# Altium footprint library Miscellaneous Devices LC.PcbLib: 559 footprints (part 16 of 35)
Each footprint in its own frame and in the unit in brackets; x right, y up, seen from the top. Pads: shape width x height; smd on the part's side, far side on the other; paste and mask are expansions set on the pad; w line width, h text height; cw(c..) or ccw(c..) is an arc to the next point about the centre after c.
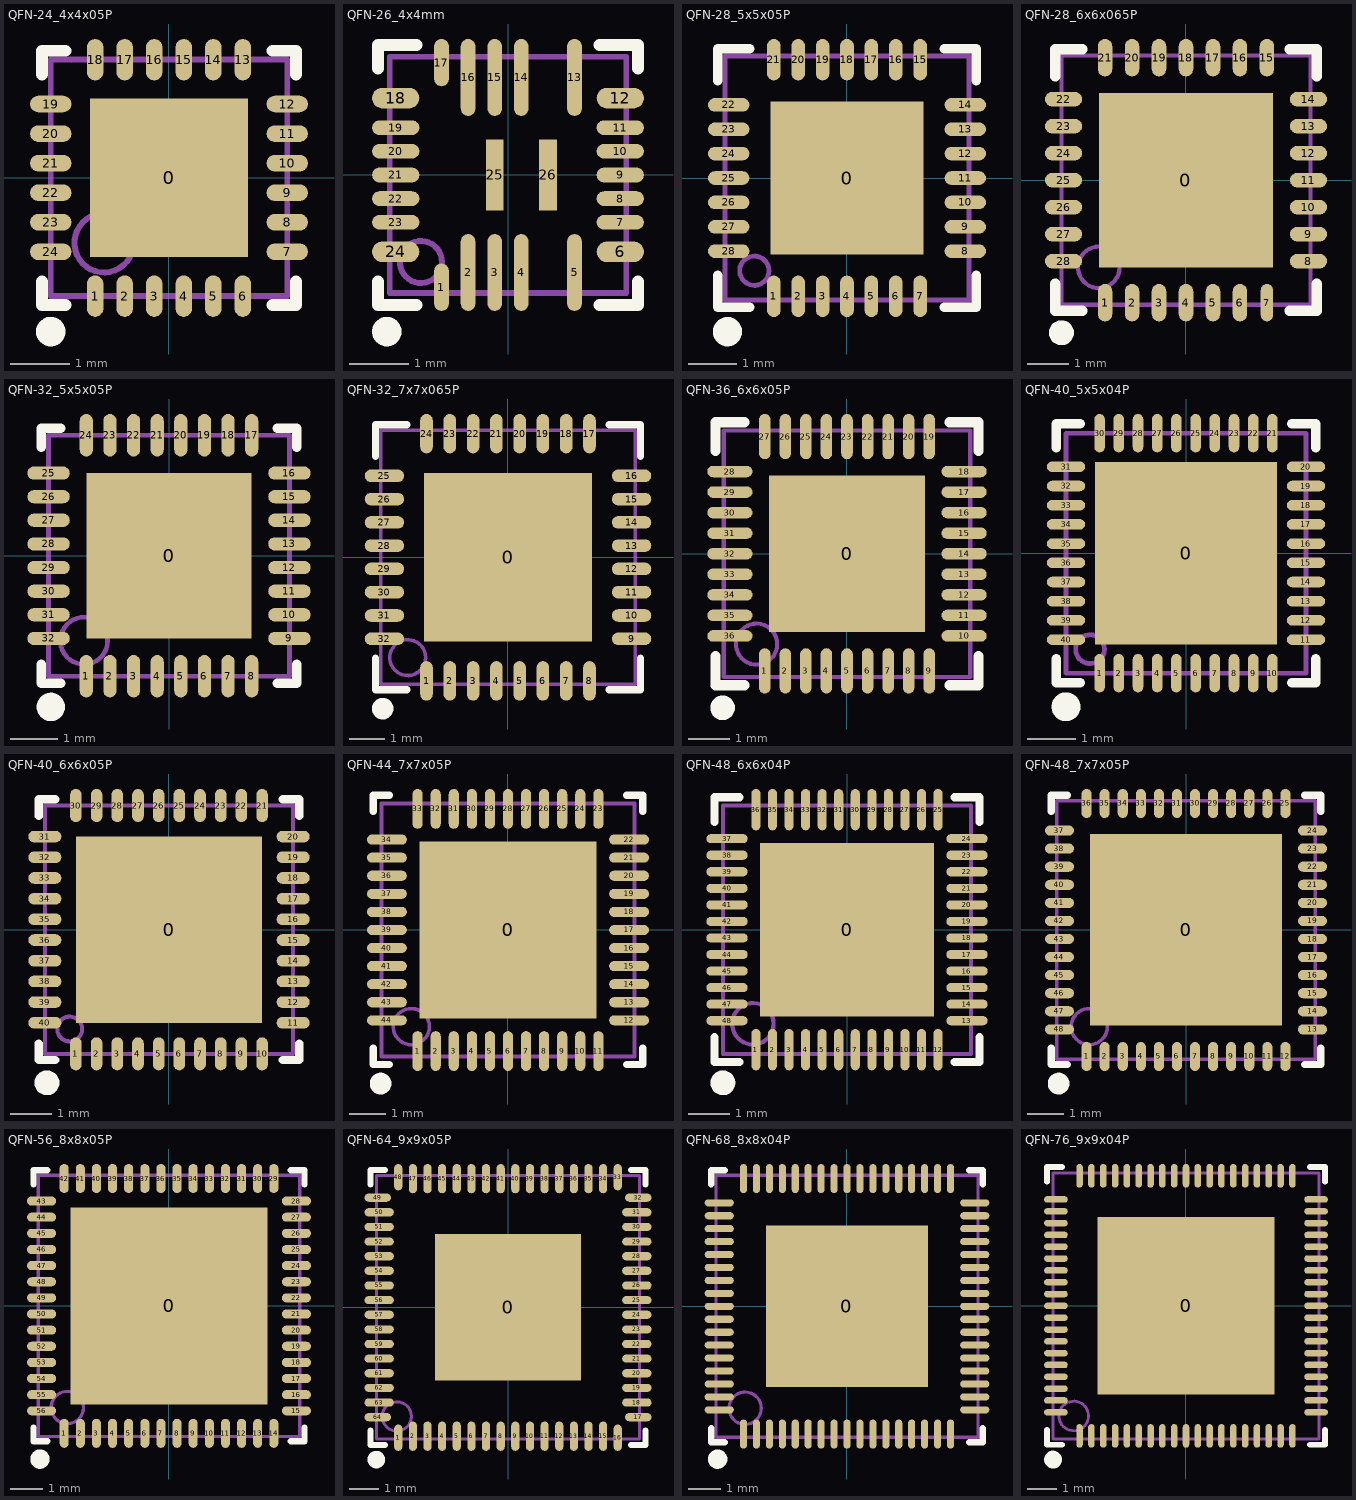
[diagram p15: the footprints below, top view; thin cyan lines are the x and y axes]

## QFN-24_4x4x05P [mm]
pads (25):
  rect 2.68x2.68 smd mask+0.051: 0(0,0)
  oval 0.28x0.7 smd mask+0.051: 1(-1.25,-2) 2(-0.75,-2) 3(-0.25,-2) 4(0.25,-2) 5(0.75,-2) 6(1.25,-2) 13(1.25,2) 14(0.75,2) 15(0.25,2) 16(-0.25,2) 17(-0.75,2) 18(-1.25,2)
  oval 0.7x0.28 smd mask+0.051: 7(2,-1.25) 8(2,-0.75) 9(2,-0.25) 10(2,0.25) 11(2,0.75) 12(2,1.25) 19(-2,1.25) 20(-2,0.75) 21(-2,0.25) 22(-2,-0.25) 23(-2,-0.75) 24(-2,-1.25)
Top Overlay:
  circle w0.25: c-2,-2.6 r0.125
  lines w0.2: -2.15,-1.75 -2.15,-2.15 -1.75,-2.15 ; -2.15,1.75 -2.15,2.15 -1.75,2.15 ; 1.75,-2.15 2.15,-2.15 2.15,-1.75 ; 1.75,2.15 2.15,2.15 2.15,1.75
Mechanical 13:
  circle w0.1: c-1.1,-1.1 r0.5
  lines w0.1: -2,-2 -2,2 2,2 2,-2 -2,-2

## QFN-26_4x4mm [mm]
pads (26):
  oval 0.25x0.8 smd mask+0.051: 1(-1.125,-1.9) 17(-1.125,1.9)
  oval 0.25x1.3 smd mask+0.051: 2(-0.675,-1.65) 3(-0.225,-1.65) 4(0.225,-1.65) 5(1.125,-1.65) 13(1.125,1.65) 14(0.225,1.65) 15(-0.225,1.65) 16(-0.675,1.65)
  oval 0.8x0.35 smd mask+0.051: 6(1.9,-1.3) 12(1.9,1.3) 18(-1.9,1.3) 24(-1.9,-1.3)
  oval 0.8x0.25 smd mask+0.051: 7(1.9,-0.8) 8(1.9,-0.4) 9(1.9,0) 10(1.9,0.4) 11(1.9,0.8) 19(-1.9,0.8) 20(-1.9,0.4) 21(-1.9,0) 22(-1.9,-0.4) 23(-1.9,-0.8)
  rect 0.3x1.2 smd mask+0.051: 25(-0.225,0) 26(0.675,0)
Top Overlay:
  circle w0.25: c-2.05,-2.65 r0.125
  lines w0.2: -2.2,-1.8 -2.2,-2.2 -1.55,-2.2 ; -2.2,1.8 -2.2,2.2 -1.55,2.2 ; 1.55,-2.2 2.2,-2.2 2.2,-1.8 ; 1.55,2.2 2.2,2.2 2.2,1.8
Mechanical 13:
  circle w0.1: c-1.473,-1.473 r0.356
  lines w0.1: -2,-2 -2,2 2,2 2,-2 -2,-2

## QFN-28_5x5x05P [mm]
pads (29):
  rect 3.13x3.13 smd mask+0.051: 0(0,0)
  oval 0.28x0.85 smd mask+0.051: 1(-1.5,-2.425) 2(-1,-2.425) 3(-0.5,-2.425) 4(0,-2.425) 5(0.5,-2.425) 6(1,-2.425) 7(1.5,-2.425) 15(1.5,2.425) 16(1,2.425) 17(0.5,2.425) 18(0,2.425) 19(-0.5,2.425) 20(-1,2.425) 21(-1.5,2.425)
  oval 0.85x0.28 smd mask+0.051: 8(2.425,-1.5) 9(2.425,-1) 10(2.425,-0.5) 11(2.425,0) 12(2.425,0.5) 13(2.425,1) 14(2.425,1.5) 22(-2.425,1.5) 23(-2.425,1) 24(-2.425,0.5) 25(-2.425,0) 26(-2.425,-0.5) 27(-2.425,-1) 28(-2.425,-1.5)
Top Overlay:
  circle w0.3: c-2.45,-3.15 r0.15
  lines w0.2: -2.65,-2 -2.65,-2.65 -2,-2.65 ; -2.65,2 -2.65,2.65 -2,2.65 ; 2,-2.65 2.65,-2.65 2.65,-2 ; 2,2.65 2.65,2.65 2.65,2
Mechanical 13:
  circle w0.1: c-1.9,-1.9 r0.3
  lines w0.1: -2.5,-2.5 2.5,-2.5 2.5,2.5 -2.5,2.5 -2.5,-2.5

## QFN-28_6x6x065P [mm]
pads (29):
  rect 4.2x4.2 smd mask+0.051: 0(0,0)
  oval 0.35x0.9 smd mask+0.051: 1(-1.95,-2.95) 2(-1.3,-2.95) 3(-0.65,-2.95) 4(0,-2.95) 5(0.65,-2.95) 6(1.3,-2.95) 15(1.95,2.95) 16(1.3,2.95) 17(0.65,2.95) 18(0,2.95) 19(-0.65,2.95) 20(-1.3,2.95) 21(-1.95,2.95)
  oval 0.3x0.9 smd mask+0.051: 7(1.95,-2.95)
  oval 0.9x0.35 smd mask+0.051: 8(2.95,-1.95) 9(2.95,-1.3) 10(2.95,-0.65) 11(2.95,0) 12(2.95,0.65) 13(2.95,1.3) 14(2.95,1.95) 22(-2.95,1.95) 23(-2.95,1.3) 24(-2.95,0.65) 25(-2.95,0) 26(-2.95,-0.65) 27(-2.95,-1.3) 28(-2.95,-1.95)
Top Overlay:
  circle w0.3: c-3,-3.675 r0.15
  lines w0.254: -3.15,-2.5 -3.15,-3.15 -2.5,-3.15 ; -3.15,2.5 -3.15,3.15 -2.5,3.15 ; 2.5,-3.15 3.15,-3.15 3.15,-2.5 ; 2.5,3.15 3.15,3.15 3.15,2.5
Mechanical 13:
  circle w0.1: c-2.1,-2.1 r0.5
  lines w0.1: -3,-3 -3,3 3,3 3,-3 -3,-3

## QFN-32_5x5x05P [mm]
pads (33):
  rect 3.5x3.5 smd paste-1.75 mask+0.051: 0(0,0)
  oval 0.28x0.9 smd mask+0.051: 1(-1.75,-2.55) 2(-1.25,-2.55) 3(-0.75,-2.55) 4(-0.25,-2.55) 5(0.25,-2.55) 6(0.75,-2.55) 7(1.25,-2.55) 8(1.75,-2.55) 17(1.75,2.55) 18(1.25,2.55) 19(0.75,2.55) 20(0.25,2.55) 21(-0.25,2.55) 22(-0.75,2.55) 23(-1.25,2.55) 24(-1.75,2.55)
  oval 0.9x0.28 smd mask+0.051: 9(2.55,-1.75) 10(2.55,-1.25) 11(2.55,-0.75) 12(2.55,-0.25) 13(2.55,0.25) 14(2.55,0.75) 15(2.55,1.25) 16(2.55,1.75) 25(-2.55,1.75) 26(-2.55,1.25) 27(-2.55,0.75) 28(-2.55,0.25) 29(-2.55,-0.25) 30(-2.55,-0.75) 31(-2.55,-1.25) 32(-2.55,-1.75)
Top Overlay:
  circle w0.3: c-2.5,-3.2 r0.15
  lines w0.2: -2.7,-2.295 -2.7,-2.7 -2.295,-2.7 ; -2.7,2.295 -2.7,2.7 -2.295,2.7 ; 2.295,-2.7 2.7,-2.7 2.7,-2.295 ; 2.295,2.7 2.7,2.7 2.7,2.295
Top Paste:
  rectangle: 0.55,0.55 1.05,1.05
  rectangle: -0.25,0.55 0.25,1.05
  rectangle: -1.05,0.55 -0.55,1.05
  rectangle: -1.05,-0.25 -0.55,0.25
  rectangle: -1.05,-1.05 -0.55,-0.55
  rectangle: 0.55,-1.05 1.05,-0.55
  rectangle: -0.25,-1.05 0.25,-0.55
  rectangle: 0.55,-0.25 1.05,0.25
  rectangle: -0.25,-0.25 0.25,0.25
Mechanical 13:
  circle w0.1: c-1.8,-1.8 r0.5
  lines w0.1: -2.55,-2.55 -2.55,2.55 2.55,2.55 2.55,-2.55 -2.55,-2.55

## QFN-32_7x7x065P [mm]
pads (33):
  rect 4.7x4.7 smd paste-2.35 mask+0.051: 0(0,0)
  oval 0.35x1.1 smd mask+0.051: 1(-2.275,-3.45) 2(-1.625,-3.45) 3(-0.975,-3.45) 4(-0.325,-3.45) 5(0.325,-3.45) 6(0.975,-3.45) 7(1.625,-3.45) 8(2.275,-3.45) 17(2.275,3.45) 18(1.625,3.45) 19(0.975,3.45) 20(0.325,3.45) 21(-0.325,3.45) 22(-0.975,3.45) 23(-1.625,3.45) 24(-2.275,3.45)
  oval 1.1x0.35 smd mask+0.051: 9(3.45,-2.275) 10(3.45,-1.625) 11(3.45,-0.975) 12(3.45,-0.325) 13(3.45,0.325) 14(3.45,0.975) 15(3.45,1.625) 16(3.45,2.275) 25(-3.45,2.275) 26(-3.45,1.625) 27(-3.45,0.975) 28(-3.45,0.325) 29(-3.45,-0.325) 30(-3.45,-0.975) 31(-3.45,-1.625) 32(-3.45,-2.275)
Top Overlay:
  circle w0.3: c-3.5,-4.225 r0.15
  lines w0.2: -3.7,-2.815 -3.7,-3.7 -2.815,-3.7 ; -3.7,2.815 -3.7,3.7 -2.815,3.7 ; 2.815,-3.7 3.7,-3.7 3.7,-2.815 ; 2.815,3.7 3.7,3.7 3.7,2.815
Top Paste:
  rectangle: 0.65,-1.35 1.35,-0.65
  rectangle: -1.35,-1.35 -0.65,-0.65
  rectangle: -0.35,-1.35 0.35,-0.65
  rectangle: 0.65,-0.35 1.35,0.35
  rectangle: 0.65,0.65 1.35,1.35
  region: -0.65,1.35 -1.35,1.35 -1.35,0.65 -0.65,0.65
  rectangle: -0.35,0.65 0.35,1.35
  rectangle: -0.35,-0.35 0.35,0.35
  region: -0.65,0.35 -1.35,0.35 -1.35,-0.35 -0.65,-0.35
Mechanical 13:
  circle w0.1: c-2.8,-2.8 r0.5
  lines w0.1: -3.55,-3.55 -3.55,3.55 3.55,3.55 3.55,-3.55 -3.55,-3.55

## QFN-36_6x6x05P [mm]
pads (37):
  rect 3.8x3.8 smd mask+0.051: 0(0,0)
  oval 0.28x1.1 smd mask+0.051: 1(-2,-2.85) 2(-1.5,-2.85) 3(-1,-2.85) 4(-0.5,-2.85) 5(0,-2.85) 6(0.5,-2.85) 7(1,-2.85) 8(1.5,-2.85) 9(2,-2.85) 19(2,2.85) 20(1.5,2.85) 21(1,2.85) 22(0.5,2.85) 23(0,2.85) 24(-0.5,2.85) 25(-1,2.85) 26(-1.5,2.85) 27(-2,2.85)
  oval 1.1x0.28 smd mask+0.051: 10(2.85,-2) 11(2.85,-1.5) 12(2.85,-1) 13(2.85,-0.5) 14(2.85,0) 15(2.85,0.5) 16(2.85,1) 17(2.85,1.5) 18(2.85,2) 28(-2.85,2) 29(-2.85,1.5) 30(-2.85,1) 31(-2.85,0.5) 32(-2.85,0) 33(-2.85,-0.5) 34(-2.85,-1) 35(-2.85,-1.5) 36(-2.85,-2)
Top Overlay:
  circle w0.3: c-3.025,-3.75 r0.15
  lines w0.254: -3.2,-2.5 -3.2,-3.2 -2.5,-3.2 ; -3.2,2.5 -3.2,3.2 -2.5,3.2 ; 2.5,-3.2 3.2,-3.2 3.2,-2.5 ; 2.5,3.2 3.2,3.2 3.2,2.5
Mechanical 13:
  circle w0.1: c-2.2,-2.2 r0.5
  lines w0.1: -3,-3 3,-3 3,3 -3,3 -3,-3
3D body "QFN36 6x6.STEP": height 0.9, standoff 0.01, extent -3.103,-3.102 3.103,3.103

## QFN-40_5x5x04P [mm]
pads (41):
  rect 3.8x3.8 smd mask+0.051: 0(0,0)
  oval 0.22x0.8 smd mask+0.051: 1(-1.8,-2.5) 2(-1.4,-2.5) 3(-1,-2.5) 4(-0.6,-2.5) 5(-0.2,-2.5) 6(0.2,-2.5) 7(0.6,-2.5) 8(1,-2.5) 9(1.4,-2.5) 10(1.8,-2.5) 21(1.8,2.5) 22(1.4,2.5) 23(1,2.5) 24(0.6,2.5) 25(0.2,2.5) 26(-0.2,2.5) 27(-0.6,2.5) 28(-1,2.5) 29(-1.4,2.5) 30(-1.8,2.5)
  oval 0.8x0.22 smd mask+0.051: 11(2.5,-1.8) 12(2.5,-1.4) 13(2.5,-1) 14(2.5,-0.6) 15(2.5,-0.2) 16(2.5,0.2) 17(2.5,0.6) 18(2.5,1) 19(2.5,1.4) 20(2.5,1.8) 31(-2.5,1.8) 32(-2.5,1.4) 33(-2.5,1) 34(-2.5,0.6) 35(-2.5,0.2) 36(-2.5,-0.2) 37(-2.5,-0.6) 38(-2.5,-1) 39(-2.5,-1.4) 40(-2.5,-1.8)
Top Overlay:
  circle w0.3: c-2.5,-3.2 r0.15
  lines w0.2: -2.7,-2.2 -2.7,-2.7 -2.2,-2.7 ; -2.7,2.2 -2.7,2.7 -2.2,2.7 ; 2.2,-2.7 2.7,-2.7 2.7,-2.2 ; 2.2,2.7 2.7,2.7 2.7,2.2
Top Paste:
  rectangle: -0.7,-0.3 -0.2,0.2
  rectangle: 0.1,-0.3 0.6,0.2
  rectangle: -0.7,-1.1 -0.2,-0.6
  rectangle: 0.1,-1.1 0.6,-0.6
  rectangle: -1.5,-1.1 -1,-0.6
  rectangle: -1.5,-0.3 -1,0.2
  rectangle: -1.5,0.5 -1,1
  rectangle: -0.7,0.5 -0.2,1
  rectangle: 0.1,0.5 0.6,1
Mechanical 13:
  circle w0.1: c-2,-2 r0.3
  lines w0.1: -2.5,-2.5 2.5,-2.5 2.5,2.5 -2.5,2.5 -2.5,-2.5

## QFN-40_6x6x05P [mm]
pads (41):
  rect 4.5x4.5 smd mask+0.051: 0(0,0)
  oval 0.28x0.8 smd mask+0.051: 1(-2.25,-3) 2(-1.75,-3) 3(-1.25,-3) 4(-0.75,-3) 5(-0.25,-3) 6(0.25,-3) 7(0.75,-3) 8(1.25,-3) 9(1.75,-3) 10(2.25,-3) 21(2.25,3) 22(1.75,3) 23(1.25,3) 24(0.75,3) 25(0.25,3) 26(-0.25,3) 27(-0.75,3) 28(-1.25,3) 29(-1.75,3) 30(-2.25,3)
  oval 0.8x0.28 smd mask+0.051: 11(3,-2.25) 12(3,-1.75) 13(3,-1.25) 14(3,-0.75) 15(3,-0.25) 16(3,0.25) 17(3,0.75) 18(3,1.25) 19(3,1.75) 20(3,2.25) 31(-3,2.25) 32(-3,1.75) 33(-3,1.25) 34(-3,0.75) 35(-3,0.25) 36(-3,-0.25) 37(-3,-0.75) 38(-3,-1.25) 39(-3,-1.75) 40(-3,-2.25)
Top Overlay:
  circle w0.3: c-2.95,-3.7 r0.15
  lines w0.2: -3.15,-2.75 -3.15,-3.15 -2.75,-3.15 ; -3.15,2.75 -3.15,3.15 -2.75,3.15 ; 2.75,-3.15 3.15,-3.15 3.15,-2.75 ; 2.75,3.15 3.15,3.15 3.15,2.75
Mechanical 13:
  circle w0.1: c-2.4,-2.4 r0.3
  lines w0.1: -3,-3 -3,3 3,3 3,-3 -3,-3
3D body "QFN40-6x6.STEP": height 0.9, standoff 0, extent -3,-3 3,3

## QFN-44_7x7x05P [mm]
pads (45):
  rect 4.9x4.9 smd mask+0.051: 0(0,0)
  oval 0.28x1.1 smd mask+0.051: 1(-2.5,-3.35) 2(-2,-3.35) 3(-1.5,-3.35) 4(-1,-3.35) 5(-0.5,-3.35) 6(0,-3.35) 7(0.5,-3.35) 8(1,-3.35) 9(1.5,-3.35) 10(2,-3.35) 11(2.5,-3.35) 23(2.5,3.35) 24(2,3.35) 25(1.5,3.35) 26(1,3.35) 27(0.5,3.35) 28(0,3.35) 29(-0.5,3.35) 30(-1,3.35) 31(-1.5,3.35) 32(-2,3.35) 33(-2.5,3.35)
  oval 1.1x0.28 smd mask+0.051: 12(3.35,-2.5) 13(3.35,-2) 14(3.35,-1.5) 15(3.35,-1) 16(3.35,-0.5) 17(3.35,0) 18(3.35,0.5) 19(3.35,1) 20(3.35,1.5) 21(3.35,2) 22(3.35,2.5) 34(-3.35,2.5) 35(-3.35,2) 36(-3.35,1.5) 37(-3.35,1) 38(-3.35,0.5) 39(-3.35,0) 40(-3.35,-0.5) 41(-3.35,-1) 42(-3.35,-1.5) 43(-3.35,-2) 44(-3.35,-2.5)
Top Overlay:
  circle w0.3: c-3.525,-4.25 r0.15
  lines w0.2: -3.725,-3.275 -3.725,-3.725 -3.275,-3.725 ; -3.725,3.275 -3.725,3.725 -3.275,3.725 ; 3.275,-3.725 3.725,-3.725 3.725,-3.275 ; 3.275,3.725 3.725,3.725 3.725,3.275
Mechanical 13:
  circle w0.1: c-2.675,-2.675 r0.5
  lines w0.1: -3.5,-3.5 3.5,-3.5 3.5,3.5 -3.5,3.5 -3.5,-3.5

## QFN-48_6x6x04P [mm]
pads (49):
  rect 4.2x4.2 smd mask+0.051: 0(0,0)
  oval 0.22x1 smd mask+0.051: 1(-2.2,-2.9) 2(-1.8,-2.9) 3(-1.4,-2.9) 4(-1,-2.9) 5(-0.6,-2.9) 6(-0.2,-2.9) 7(0.2,-2.9) 8(0.6,-2.9) 9(1,-2.9) 10(1.4,-2.9) 11(1.8,-2.9) 12(2.2,-2.9) 25(2.2,2.9) 26(1.8,2.9) 27(1.4,2.9) 28(1,2.9) 29(0.6,2.9) 30(0.2,2.9) 31(-0.2,2.9) 32(-0.6,2.9) 33(-1,2.9) 34(-1.4,2.9) 35(-1.8,2.9) 36(-2.2,2.9)
  oval 1x0.22 smd mask+0.051: 13(2.9,-2.2) 14(2.9,-1.8) 15(2.9,-1.4) 16(2.9,-1) 17(2.9,-0.6) 18(2.9,-0.2) 19(2.9,0.2) 20(2.9,0.6) 21(2.9,1) 22(2.9,1.4) 23(2.9,1.8) 24(2.9,2.2) 37(-2.9,2.2) 38(-2.9,1.8) 39(-2.9,1.4) 40(-2.9,1) 41(-2.9,0.6) 42(-2.9,0.2) 43(-2.9,-0.2) 44(-2.9,-0.6) 45(-2.9,-1) 46(-2.9,-1.4) 47(-2.9,-1.8) 48(-2.9,-2.2)
Top Overlay:
  circle w0.3: c-3,-3.7 r0.15
  lines w0.2: -3.2,-2.6 -3.2,-3.2 -2.6,-3.2 ; -3.2,2.6 -3.2,3.2 -2.6,3.2 ; 2.6,-3.2 3.2,-3.2 3.2,-2.6 ; 2.6,3.2 3.2,3.2 3.2,2.6
Mechanical 13:
  circle w0.1: c-2.275,-2.275 r0.5
  lines w0.1: -3,-3 -3,3 3,3 3,-3 -3,-3

## QFN-48_7x7x05P [mm]
pads (49):
  rect 5.3x5.3 smd mask+0.051: 0(0,0)
  oval 0.28x0.8 smd mask+0.051: 1(-2.75,-3.5) 2(-2.25,-3.5) 3(-1.75,-3.5) 4(-1.25,-3.5) 5(-0.75,-3.5) 6(-0.25,-3.5) 7(0.25,-3.5) 8(0.75,-3.5) 9(1.25,-3.5) 10(1.75,-3.5) 11(2.25,-3.5) 12(2.75,-3.5) 25(2.75,3.5) 26(2.25,3.5) 27(1.75,3.5) 28(1.25,3.5) 29(0.75,3.5) 30(0.25,3.5) 31(-0.25,3.5) 32(-0.75,3.5) 33(-1.25,3.5) 34(-1.75,3.5) 35(-2.25,3.5) 36(-2.75,3.5)
  oval 0.8x0.28 smd mask+0.051: 13(3.5,-2.75) 14(3.5,-2.25) 15(3.5,-1.75) 16(3.5,-1.25) 17(3.5,-0.75) 18(3.5,-0.25) 19(3.5,0.25) 20(3.5,0.75) 21(3.5,1.25) 22(3.5,1.75) 23(3.5,2.25) 24(3.5,2.75) 37(-3.5,2.75) 38(-3.5,2.25) 39(-3.5,1.75) 40(-3.5,1.25) 41(-3.5,0.75) 42(-3.5,0.25) 43(-3.5,-0.25) 44(-3.5,-0.75) 45(-3.5,-1.25) 46(-3.5,-1.75) 47(-3.5,-2.25) 48(-3.5,-2.75)
Top Overlay:
  circle w0.3: c-3.525,-4.25 r0.15
  lines w0.2: -3.725,-3.275 -3.725,-3.725 -3.275,-3.725 ; -3.725,3.275 -3.725,3.725 -3.275,3.725 ; 3.275,-3.725 3.725,-3.725 3.725,-3.275 ; 3.275,3.725 3.725,3.725 3.725,3.275
Mechanical 13:
  circle w0.1: c-2.675,-2.675 r0.5
  lines w0.1: -3.575,-3.575 -3.575,3.575 3.575,3.575 3.575,-3.575 -3.575,-3.575
3D body "QFN48 7x7.STEP": height 0.78, standoff -0.02, extent -3.51,-3.52 3.51,3.5

## QFN-56_8x8x05P [mm]
pads (57):
  rect 6.1x6.1 smd mask+0.051: 0(0,0)
  oval 0.28x0.9 smd mask+0.051: 1(-3.25,-3.95) 2(-2.75,-3.95) 3(-2.25,-3.95) 4(-1.75,-3.95) 5(-1.25,-3.95) 6(-0.75,-3.95) 7(-0.25,-3.95) 8(0.25,-3.95) 9(0.75,-3.95) 10(1.25,-3.95) 11(1.75,-3.95) 12(2.25,-3.95) 13(2.75,-3.95) 14(3.25,-3.95) 29(3.25,3.95) 30(2.75,3.95) 31(2.25,3.95) 32(1.75,3.95) 33(1.25,3.95) 34(0.75,3.95) 35(0.25,3.95) 36(-0.25,3.95) 37(-0.75,3.95) 38(-1.25,3.95) 39(-1.75,3.95) 40(-2.25,3.95) 41(-2.75,3.95) 42(-3.25,3.95)
  oval 0.9x0.28 smd mask+0.051: 15(3.95,-3.25) 16(3.95,-2.75) 17(3.95,-2.25) 18(3.95,-1.75) 19(3.95,-1.25) 20(3.95,-0.75) 21(3.95,-0.25) 22(3.95,0.25) 23(3.95,0.75) 24(3.95,1.25) 25(3.95,1.75) 26(3.95,2.25) 27(3.95,2.75) 28(3.95,3.25) 43(-3.95,3.25) 44(-3.95,2.75) 45(-3.95,2.25) 46(-3.95,1.75) 47(-3.95,1.25) 48(-3.95,0.75) 49(-3.95,0.25) 50(-3.95,-0.25) 51(-3.95,-0.75) 52(-3.95,-1.25) 53(-3.95,-1.75) 54(-3.95,-2.25) 55(-3.95,-2.75) 56(-3.95,-3.25)
Top Overlay:
  circle w0.3: c-4,-4.75 r0.15
  lines w0.2: -4.2,-3.775 -4.2,-4.2 -3.775,-4.2 ; -4.2,3.775 -4.2,4.2 -3.775,4.2 ; 3.775,-4.2 4.2,-4.2 4.2,-3.775 ; 3.775,4.2 4.2,4.2 4.2,3.775
Mechanical 13:
  circle w0.1: c-3.15,-3.15 r0.5
  lines w0.1: -4.05,-4.05 -4.05,4.05 4.05,4.05 4.05,-4.05 -4.05,-4.05
3D body "QFN56 8x8.STEP": height 0.95, standoff 0, extent -4.015,-4.05 4.015,3.98

## QFN-64_9x9x05P [mm]
pads (65):
  rect 5x5 smd mask+0.051: 0(0,0)
  oval 0.28x0.9 smd mask+0.051: 1(-3.75,-4.45) 16(3.75,-4.45) 33(3.75,4.45) 48(-3.75,4.45)
  oval 0.28x1 smd mask+0.051: 2(-3.25,-4.4) 3(-2.75,-4.4) 4(-2.25,-4.4) 5(-1.75,-4.4) 6(-1.25,-4.4) 7(-0.75,-4.4) 8(-0.25,-4.4) 9(0.25,-4.4) 10(0.75,-4.4) 11(1.25,-4.4) 12(1.75,-4.4) 13(2.25,-4.4) 14(2.75,-4.4) 15(3.25,-4.4) 34(3.25,4.4) 35(2.75,4.4) 36(2.25,4.4) 37(1.75,4.4) 38(1.25,4.4) 39(0.75,4.4) 40(0.25,4.4) 41(-0.25,4.4) 42(-0.75,4.4) 43(-1.25,4.4) 44(-1.75,4.4) 45(-2.25,4.4) 46(-2.75,4.4) 47(-3.25,4.4)
  oval 0.9x0.28 smd mask+0.051: 17(4.45,-3.75) 32(4.45,3.75) 49(-4.45,3.75) 64(-4.45,-3.75)
  oval 1x0.28 smd mask+0.051: 18(4.4,-3.25) 19(4.4,-2.75) 20(4.4,-2.25) 21(4.4,-1.75) 22(4.4,-1.25) 23(4.4,-0.75) 24(4.4,-0.25) 25(4.4,0.25) 26(4.4,0.75) 27(4.4,1.25) 28(4.4,1.75) 29(4.4,2.25) 30(4.4,2.75) 31(4.4,3.25) 50(-4.4,3.25) 51(-4.4,2.75) 52(-4.4,2.25) 53(-4.4,1.75) 54(-4.4,1.25) 55(-4.4,0.75) 56(-4.4,0.25) 57(-4.4,-0.25) 58(-4.4,-0.75) 59(-4.4,-1.25) 60(-4.4,-1.75) 61(-4.4,-2.25) 62(-4.4,-2.75) 63(-4.4,-3.25)
Top Overlay:
  circle w0.3: c-4.5,-5.2 r0.15
  lines w0.2: -4.7,-4.2 -4.7,-4.7 -4.2,-4.7 ; -4.7,4.2 -4.7,4.7 -4.2,4.7 ; 4.2,-4.7 4.7,-4.7 4.7,-4.2 ; 4.2,4.7 4.7,4.7 4.7,4.2
Mechanical 13:
  circle w0.1: c-3.8,-3.725 r0.5
  lines w0.1: -4.5,-4.5 -4.5,4.5 4.5,4.5 4.5,-4.5 -4.5,-4.5

## QFN-68_8x8x04P [mm]
pads (69):
  rect 5x5 smd: 0(0,0)
  oval 0.22x0.9 smd mask+0.051: 1(-3.2,-3.95) 2(-2.8,-3.95) 3(-2.4,-3.95) 4(-2,-3.95) 5(-1.6,-3.95) 6(-1.2,-3.95) 7(-0.8,-3.95) 8(-0.4,-3.95) 9(0,-3.95) 10(0.4,-3.95) 11(0.8,-3.95) 12(1.2,-3.95) 13(1.6,-3.95) 14(2,-3.95) 15(2.4,-3.95) 16(2.8,-3.95) 17(3.2,-3.95) 35(3.2,3.95) 36(2.8,3.95) 37(2.4,3.95) 38(2,3.95) 39(1.6,3.95) 40(1.2,3.95) 41(0.8,3.95) 42(0.4,3.95) 43(0,3.95) 44(-0.4,3.95) 45(-0.8,3.95) 46(-1.2,3.95) 47(-1.6,3.95) 48(-2,3.95) 49(-2.4,3.95) 50(-2.8,3.95) 51(-3.2,3.95)
  oval 0.9x0.22 smd mask+0.051: 18(3.95,-3.2) 19(3.95,-2.8) 20(3.95,-2.4) 21(3.95,-2) 22(3.95,-1.6) 23(3.95,-1.2) 24(3.95,-0.8) 25(3.95,-0.4) 26(3.95,0) 27(3.95,0.4) 28(3.95,0.8) 29(3.95,1.2) 30(3.95,1.6) 31(3.95,2) 32(3.95,2.4) 33(3.95,2.8) 34(3.95,3.2) 52(-3.95,3.2) 53(-3.95,2.8) 54(-3.95,2.4) 55(-3.95,2) 56(-3.95,1.6) 57(-3.95,1.2) 58(-3.95,0.8) 59(-3.95,0.4) 60(-3.95,0) 61(-3.95,-0.4) 62(-3.95,-0.8) 63(-3.95,-1.2) 64(-3.95,-1.6) 65(-3.95,-2) 66(-3.95,-2.4) 67(-3.95,-2.8) 68(-3.95,-3.2)
Top Overlay:
  circle w0.3: c-4,-4.725 r0.15
  lines w0.2: -4.2,-3.775 -4.2,-4.2 -3.775,-4.2 ; -4.2,3.775 -4.2,4.2 -3.775,4.2 ; 3.775,-4.2 4.2,-4.2 4.2,-3.775 ; 3.775,4.2 4.2,4.2 4.2,3.775
Mechanical 13:
  circle w0.1: c-3.15,-3.15 r0.5
  lines w0.1: -4.05,-4.05 4.05,-4.05 4.05,4.05 -4.05,4.05 -4.05,-4.05

## QFN-76_9x9x04P [mm]
pads (77):
  rect 6x6 smd mask+0.051: 0(0,0)
  oval 0.22x0.8 smd mask+0.051: 1(-3.6,-4.4) 2(-3.2,-4.4) 3(-2.8,-4.4) 4(-2.4,-4.4) 5(-2,-4.4) 6(-1.6,-4.4) 7(-1.2,-4.4) 8(-0.8,-4.4) 9(-0.4,-4.4) 10(0,-4.4) 11(0.4,-4.4) 12(0.8,-4.4) 13(1.2,-4.4) 14(1.6,-4.4) 15(2,-4.4) 16(2.4,-4.4) 17(2.8,-4.4) 18(3.2,-4.4) 19(3.6,-4.4) 39(3.6,4.4) 40(3.2,4.4) 41(2.8,4.4) 42(2.4,4.4) 43(2,4.4) 44(1.6,4.4) 45(1.2,4.4) 46(0.8,4.4) 47(0.4,4.4) 48(0,4.4) 49(-0.4,4.4) 50(-0.8,4.4) 51(-1.2,4.4) 52(-1.6,4.4) 53(-2,4.4) 54(-2.4,4.4) 55(-2.8,4.4) 56(-3.2,4.4) 57(-3.6,4.4)
  oval 0.8x0.22 smd mask+0.051: 20(4.4,-3.6) 21(4.4,-3.2) 22(4.4,-2.8) 23(4.4,-2.4) 24(4.4,-2) 25(4.4,-1.6) 26(4.4,-1.2) 27(4.4,-0.8) 28(4.4,-0.4) 29(4.4,0) 30(4.4,0.4) 31(4.4,0.8) 32(4.4,1.2) 33(4.4,1.6) 34(4.4,2) 35(4.4,2.4) 36(4.4,2.8) 37(4.4,3.2) 38(4.4,3.6) 58(-4.4,3.6) 59(-4.4,3.2) 60(-4.4,2.8) 61(-4.4,2.4) 62(-4.4,2) 63(-4.4,1.6) 64(-4.4,1.2) 65(-4.4,0.8) 66(-4.4,0.4) 67(-4.4,0) 68(-4.4,-0.4) 69(-4.4,-0.8) 70(-4.4,-1.2) 71(-4.4,-1.6) 72(-4.4,-2) 73(-4.4,-2.4) 74(-4.4,-2.8) 75(-4.4,-3.2) 76(-4.4,-3.6)
Top Overlay:
  circle w0.3: c-4.5,-5.2 r0.15
  lines w0.2: -4.7,-4.2 -4.7,-4.7 -4.2,-4.7 ; -4.7,4.2 -4.7,4.7 -4.2,4.7 ; 4.2,-4.7 4.7,-4.7 4.7,-4.2 ; 4.2,4.7 4.7,4.7 4.7,4.2
Mechanical 13:
  circle w0.1: c-3.8,-3.725 r0.5
  lines w0.1: -4.5,-4.5 4.5,-4.5 4.5,4.5 -4.5,4.5 -4.5,-4.5